# Altium schematic symbol library kmilo17pet-LT_PMIC_LT.SchLib: 2252 symbols (part 27 of 124)
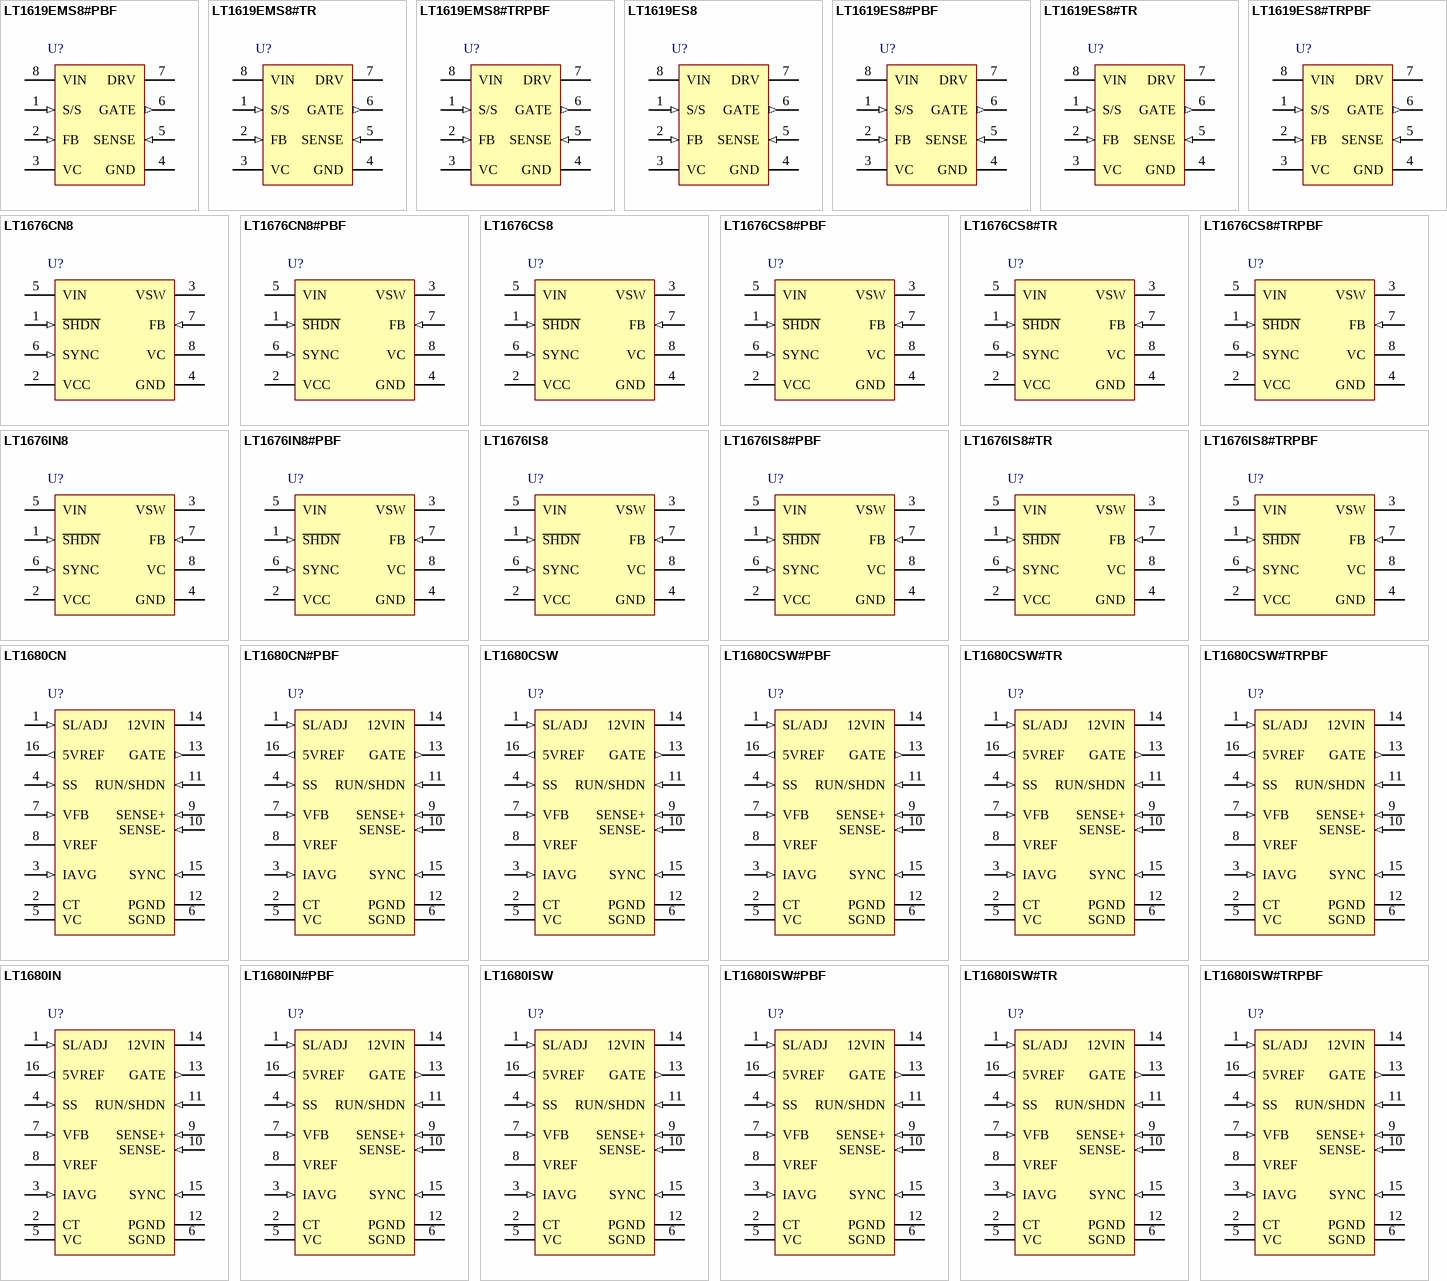
[diagram p97: symbols LT1619EMS8#PBF to LT1680ISW#TRPBF]

## LT1676IS8#TRPBF
designator U?
Wide Input Range, High Efficiency, Step-Down Switching Regulator, 8-pin SOIC (S8-8), -40 to 125 degC, Pb-Free, Tape and Reel; Manufacturer: Linear Technology; PartNumber: LT1676IS8#TRPBF; Number of Outputs: 1; PackageReference: S8-8; PackageDescription: 8-Pin Plastic Small Outline (Narrow .150 Inch), Body 4.9 x 3.9 mm, Pitch 1.27 mm; Supplier 1: Digi-Key; Supplier Part Number 1: LT1676IS8#TRPBF-ND; RoHS: TRUE
footprint LT-S8-8_N (SOIC, 8-Leads, Body 5x4mm, Pitch 1.27mm, IPC Medium Density)
footprint LT-S8-8_L (SOIC, 8-Leads, Body 5x4mm, Pitch 1.27mm, IPC High Density)
footprint LT-S8-8_M (SOIC, 8-Leads, Body 5x4mm, Pitch 1.27mm, IPC Low Density)
pins: 1 ~{SHDN} (in) "When pulled below the shutdown mode threshold, nominally 0.30V, this pin turns off the regulator and reduces VIN input current to a few tens of microamperes (shutdown mode).", 2 VCC (power) "This pin is used to power the internal control circuitry off of the switching supply output. Proper use of this pin enhances overall power supply efficiency. During start-up conditions, internal control circuitry is powered (See Datasheet)", 3 VSW (power) "This is the emitter node of the output switch and has large currents flowing through it. This node moves at a high dV/dt rate, especially when in “boost” mode. Keep the traces to the switching components as short(See Datasheet)", 4 GND (power) "This is the device ground pin. The internal reference and feedback amplifier are referred to it. Keep the ground path connection to the FB divider and the VC compensation capacitor free of large ground currents.", 5 VIN (power) "This is the high voltage supply pin for the output switch. It also supplies power to the internal control circuitry during start-up conditions or if the VCC pin is left open. A high quality bypass capacitor which meets the (See Datasheet)", 6 SYNC (in) "Pin used to synchronize internal oscillator to the external frequency reference. It is directly logic compatible and can be driven with any signal between 10% and 90% duty cycle. The sync function is internally disabled if (See Datasheet)", 7 FB (in) "This is the inverting input to the feedback amplifier. The noninverting input of this amplifier is internally tied to the 1.24V reference. This pin also slows down the frequency of the internal oscillator when its voltage is (See Datasheet)", 8 VC "This is the control voltage pin which is the output of the feedback amplifier and the input of the current comparator. Frequency compensation of the overall loop is effected by placing a capacitor, (or in most cases a series (See Datasheet)"

## LT1680CN
designator U?
High Power DC/DC Step-Up Controller MAX, 16-pin DIP (N-16), 0 to 70 degC; Manufacturer: Linear Technology; PartNumber: LT1680CN; Number of Outputs: 1; PackageReference: N-16; PackageDescription: 16-Pin PDIP, Body 19.56 x 6.48 mm, Pitch 2.54 mm; Supplier 1: Digi-Key; Supplier Part Number 1: LT1680CN-ND; RoHS: FALSE
footprint LT-N-16 (DIP, 16-Leads, Body 19.56x6.48mm, Pitch 2.54mm)
pins: 1 SL/ADJ (in) "Slope Compensation Adjustment. Allows increased slope compensation for certain high duty cycle applications. Resistive loading of this pin increases effective slope compensation. A resistor divider from the 5VREF pin can (See Datasheet)", 2 CT "Oscillator Timing Pin. Connect a capacitor (CCT) to ground and a pull-up resistor (RCT) to the 5VREF supply. Typical values are CCT = 1000pF and 10k <=RCT <= 30k.", 3 IAVG (in) "Average Current Limit Integration. The frequency response characteristic is set using 50k ohm output impedance of this pin and external capacitor. The external capacitor is typically connected from the IAVG pin to the VC (See Datasheet)", 4 SS (in) "Soft Start. Generates ramping threshold for regulator current limit during start-up and after UVLO events by sourcing about 8uA into an external capacitor.", 5 VC "Error Amplifier Output. RC load creates dominant compensation in power supply regulation feedback loop to provide optimum transient response. (See Applications Information section for compensation details.)", 6 SGND (power) "Small-Signal Ground. Connect to negative terminal of COUT.", 7 VFB (in) "Error Amplifier Inverting Input. Used as voltage feedback input node for regulator loop. Pin sources about 0.5uA DC bias current to protect from an open feedback path condition.", 8 VREF "Bandgap Generated Voltage Reference Decoupling. Connect a capacitor to signal ground.", 9 SENSE+ (in) "Current Sense Amplifier Inverting Input. Connect to most positive (DC) terminal of current sense resistor.", 10 SENSE- (in) "Current Sense Amplifier Noninverting Input. Connect to most negative (DC) terminal of current sense resistor.", 11 RUN/SHDN (in) "Precision Referenced Shutdown. Can be used as logic level input for shutdown control or as an analog monitor for input supply undervoltage protection, etc. IC is enabled when RUN/SHDN pin rising edge exceeds 1.25V. 25mV of (See Datasheet)", 12 PGND (power) "Power Ground. References the output switch and internal driver control circuits. Connect with low impedance trace to VIN decoupling capacitor negative (ground) terminal.", 13 GATE (out) "Driver Output. Connect to gate of external power FET switch.", 14 12VIN (power) "12V Power Supply Input. Bypass with at least 1uF to PGND.", 15 SYNC (in) "Oscillator Synchronization Pin with TTL-Level Compatible Input. Input drives internal rising edge triggered one shot; SYNC signal on/off times should be >= 1us (10% to 90% duty cycle at 100kHz). Does not contain internal (See Datasheet)", 16 5VREF (out) "5V Reference Output. Allows connection of external loads up to 10mA DC. Reference is not available during shutdown. Typically bypassed with at least 1uF capacitor to SGND"

## LT1680CN#PBF
designator U?
High Power DC/DC Step-Up Controller MAX, 16-pin DIP (N-16), 0 to 70 degC, Pb-Free; Manufacturer: Linear Technology; PartNumber: LT1680CN#PBF; Number of Outputs: 1; PackageReference: N-16; PackageDescription: 16-Pin PDIP, Body 19.56 x 6.48 mm, Pitch 2.54 mm; Supplier 1: Digi-Key; Supplier Part Number 1: LT1680CN#PBF-ND; RoHS: TRUE
footprint LT-N-16 (DIP, 16-Leads, Body 19.56x6.48mm, Pitch 2.54mm)
pins: 1 SL/ADJ (in) "Slope Compensation Adjustment. Allows increased slope compensation for certain high duty cycle applications. Resistive loading of this pin increases effective slope compensation. A resistor divider from the 5VREF pin can (See Datasheet)", 2 CT "Oscillator Timing Pin. Connect a capacitor (CCT) to ground and a pull-up resistor (RCT) to the 5VREF supply. Typical values are CCT = 1000pF and 10k <=RCT <= 30k.", 3 IAVG (in) "Average Current Limit Integration. The frequency response characteristic is set using 50k ohm output impedance of this pin and external capacitor. The external capacitor is typically connected from the IAVG pin to the VC (See Datasheet)", 4 SS (in) "Soft Start. Generates ramping threshold for regulator current limit during start-up and after UVLO events by sourcing about 8uA into an external capacitor.", 5 VC "Error Amplifier Output. RC load creates dominant compensation in power supply regulation feedback loop to provide optimum transient response. (See Applications Information section for compensation details.)", 6 SGND (power) "Small-Signal Ground. Connect to negative terminal of COUT.", 7 VFB (in) "Error Amplifier Inverting Input. Used as voltage feedback input node for regulator loop. Pin sources about 0.5uA DC bias current to protect from an open feedback path condition.", 8 VREF "Bandgap Generated Voltage Reference Decoupling. Connect a capacitor to signal ground.", 9 SENSE+ (in) "Current Sense Amplifier Inverting Input. Connect to most positive (DC) terminal of current sense resistor.", 10 SENSE- (in) "Current Sense Amplifier Noninverting Input. Connect to most negative (DC) terminal of current sense resistor.", 11 RUN/SHDN (in) "Precision Referenced Shutdown. Can be used as logic level input for shutdown control or as an analog monitor for input supply undervoltage protection, etc. IC is enabled when RUN/SHDN pin rising edge exceeds 1.25V. 25mV of (See Datasheet)", 12 PGND (power) "Power Ground. References the output switch and internal driver control circuits. Connect with low impedance trace to VIN decoupling capacitor negative (ground) terminal.", 13 GATE (out) "Driver Output. Connect to gate of external power FET switch.", 14 12VIN (power) "12V Power Supply Input. Bypass with at least 1uF to PGND.", 15 SYNC (in) "Oscillator Synchronization Pin with TTL-Level Compatible Input. Input drives internal rising edge triggered one shot; SYNC signal on/off times should be >= 1us (10% to 90% duty cycle at 100kHz). Does not contain internal (See Datasheet)", 16 5VREF (out) "5V Reference Output. Allows connection of external loads up to 10mA DC. Reference is not available during shutdown. Typically bypassed with at least 1uF capacitor to SGND"

## LT1680CSW
designator U?
High Power DC/DC Step-Up Controller MAX, 16-pin SOIC (SW-16), 0 to 70 degC; Manufacturer: Linear Technology; PartNumber: LT1680CSW; Number of Outputs: 1; PackageReference: SW-16; PackageDescription: 16-Pin Plastic Small Outline, Body 10.30 x 7.49 mm, Pitch 1.27 mm; Supplier 1: Digi-Key; Supplier Part Number 1: LT1680CSW-ND; RoHS: FALSE
footprint LT-SW-16_N (SOIC, 16-Leads, Body 10.3x7.49mm, Pitch 1.27mm, IPC Medium Density)
footprint LT-SW-16_L (SOIC, 16-Leads, Body 10.3x7.49mm, Pitch 1.27mm, IPC High Density)
footprint LT-SW-16_M (SOIC, 16-Leads, Body 10.3x7.49mm, Pitch 1.27mm, IPC Low Density)
pins: 1 SL/ADJ (in) "Slope Compensation Adjustment. Allows increased slope compensation for certain high duty cycle applications. Resistive loading of this pin increases effective slope compensation. A resistor divider from the 5VREF pin can (See Datasheet)", 2 CT "Oscillator Timing Pin. Connect a capacitor (CCT) to ground and a pull-up resistor (RCT) to the 5VREF supply. Typical values are CCT = 1000pF and 10k <=RCT <= 30k.", 3 IAVG (in) "Average Current Limit Integration. The frequency response characteristic is set using 50k ohm output impedance of this pin and external capacitor. The external capacitor is typically connected from the IAVG pin to the VC (See Datasheet)", 4 SS (in) "Soft Start. Generates ramping threshold for regulator current limit during start-up and after UVLO events by sourcing about 8uA into an external capacitor.", 5 VC "Error Amplifier Output. RC load creates dominant compensation in power supply regulation feedback loop to provide optimum transient response. (See Applications Information section for compensation details.)", 6 SGND (power) "Small-Signal Ground. Connect to negative terminal of COUT.", 7 VFB (in) "Error Amplifier Inverting Input. Used as voltage feedback input node for regulator loop. Pin sources about 0.5uA DC bias current to protect from an open feedback path condition.", 8 VREF "Bandgap Generated Voltage Reference Decoupling. Connect a capacitor to signal ground.", 9 SENSE+ (in) "Current Sense Amplifier Inverting Input. Connect to most positive (DC) terminal of current sense resistor.", 10 SENSE- (in) "Current Sense Amplifier Noninverting Input. Connect to most negative (DC) terminal of current sense resistor.", 11 RUN/SHDN (in) "Precision Referenced Shutdown. Can be used as logic level input for shutdown control or as an analog monitor for input supply undervoltage protection, etc. IC is enabled when RUN/SHDN pin rising edge exceeds 1.25V. 25mV of (See Datasheet)", 12 PGND (power) "Power Ground. References the output switch and internal driver control circuits. Connect with low impedance trace to VIN decoupling capacitor negative (ground) terminal.", 13 GATE (out) "Driver Output. Connect to gate of external power FET switch.", 14 12VIN (power) "12V Power Supply Input. Bypass with at least 1uF to PGND.", 15 SYNC (in) "Oscillator Synchronization Pin with TTL-Level Compatible Input. Input drives internal rising edge triggered one shot; SYNC signal on/off times should be >= 1us (10% to 90% duty cycle at 100kHz). Does not contain internal (See Datasheet)", 16 5VREF (out) "5V Reference Output. Allows connection of external loads up to 10mA DC. Reference is not available during shutdown. Typically bypassed with at least 1uF capacitor to SGND"

## LT1680CSW#PBF
designator U?
High Power DC/DC Step-Up Controller MAX, 16-pin SOIC (SW-16), 0 to 70 degC, Pb-Free; Manufacturer: Linear Technology; PartNumber: LT1680CSW#PBF; Number of Outputs: 1; PackageReference: SW-16; PackageDescription: 16-Pin Plastic Small Outline, Body 10.30 x 7.49 mm, Pitch 1.27 mm; Supplier 1: Digi-Key; Supplier Part Number 1: LT1680CSW#PBF-ND; RoHS: TRUE
footprint LT-SW-16_N (SOIC, 16-Leads, Body 10.3x7.49mm, Pitch 1.27mm, IPC Medium Density)
footprint LT-SW-16_L (SOIC, 16-Leads, Body 10.3x7.49mm, Pitch 1.27mm, IPC High Density)
footprint LT-SW-16_M (SOIC, 16-Leads, Body 10.3x7.49mm, Pitch 1.27mm, IPC Low Density)
pins: 1 SL/ADJ (in) "Slope Compensation Adjustment. Allows increased slope compensation for certain high duty cycle applications. Resistive loading of this pin increases effective slope compensation. A resistor divider from the 5VREF pin can (See Datasheet)", 2 CT "Oscillator Timing Pin. Connect a capacitor (CCT) to ground and a pull-up resistor (RCT) to the 5VREF supply. Typical values are CCT = 1000pF and 10k <=RCT <= 30k.", 3 IAVG (in) "Average Current Limit Integration. The frequency response characteristic is set using 50k ohm output impedance of this pin and external capacitor. The external capacitor is typically connected from the IAVG pin to the VC (See Datasheet)", 4 SS (in) "Soft Start. Generates ramping threshold for regulator current limit during start-up and after UVLO events by sourcing about 8uA into an external capacitor.", 5 VC "Error Amplifier Output. RC load creates dominant compensation in power supply regulation feedback loop to provide optimum transient response. (See Applications Information section for compensation details.)", 6 SGND (power) "Small-Signal Ground. Connect to negative terminal of COUT.", 7 VFB (in) "Error Amplifier Inverting Input. Used as voltage feedback input node for regulator loop. Pin sources about 0.5uA DC bias current to protect from an open feedback path condition.", 8 VREF "Bandgap Generated Voltage Reference Decoupling. Connect a capacitor to signal ground.", 9 SENSE+ (in) "Current Sense Amplifier Inverting Input. Connect to most positive (DC) terminal of current sense resistor.", 10 SENSE- (in) "Current Sense Amplifier Noninverting Input. Connect to most negative (DC) terminal of current sense resistor.", 11 RUN/SHDN (in) "Precision Referenced Shutdown. Can be used as logic level input for shutdown control or as an analog monitor for input supply undervoltage protection, etc. IC is enabled when RUN/SHDN pin rising edge exceeds 1.25V. 25mV of (See Datasheet)", 12 PGND (power) "Power Ground. References the output switch and internal driver control circuits. Connect with low impedance trace to VIN decoupling capacitor negative (ground) terminal.", 13 GATE (out) "Driver Output. Connect to gate of external power FET switch.", 14 12VIN (power) "12V Power Supply Input. Bypass with at least 1uF to PGND.", 15 SYNC (in) "Oscillator Synchronization Pin with TTL-Level Compatible Input. Input drives internal rising edge triggered one shot; SYNC signal on/off times should be >= 1us (10% to 90% duty cycle at 100kHz). Does not contain internal (See Datasheet)", 16 5VREF (out) "5V Reference Output. Allows connection of external loads up to 10mA DC. Reference is not available during shutdown. Typically bypassed with at least 1uF capacitor to SGND"

## LT1680CSW#TR
designator U?
High Power DC/DC Step-Up Controller MAX, 16-pin SOIC (SW-16), 0 to 70 degC, Tape and Reel; Manufacturer: Linear Technology; PartNumber: LT1680CSW#TR; Number of Outputs: 1; PackageReference: SW-16; PackageDescription: 16-Pin Plastic Small Outline, Body 10.30 x 7.49 mm, Pitch 1.27 mm; Supplier 1: Digi-Key; Supplier Part Number 1: LT1680CSW#TR-ND; RoHS: FALSE
footprint LT-SW-16_N (SOIC, 16-Leads, Body 10.3x7.49mm, Pitch 1.27mm, IPC Medium Density)
footprint LT-SW-16_L (SOIC, 16-Leads, Body 10.3x7.49mm, Pitch 1.27mm, IPC High Density)
footprint LT-SW-16_M (SOIC, 16-Leads, Body 10.3x7.49mm, Pitch 1.27mm, IPC Low Density)
pins: 1 SL/ADJ (in) "Slope Compensation Adjustment. Allows increased slope compensation for certain high duty cycle applications. Resistive loading of this pin increases effective slope compensation. A resistor divider from the 5VREF pin can (See Datasheet)", 2 CT "Oscillator Timing Pin. Connect a capacitor (CCT) to ground and a pull-up resistor (RCT) to the 5VREF supply. Typical values are CCT = 1000pF and 10k <=RCT <= 30k.", 3 IAVG (in) "Average Current Limit Integration. The frequency response characteristic is set using 50k ohm output impedance of this pin and external capacitor. The external capacitor is typically connected from the IAVG pin to the VC (See Datasheet)", 4 SS (in) "Soft Start. Generates ramping threshold for regulator current limit during start-up and after UVLO events by sourcing about 8uA into an external capacitor.", 5 VC "Error Amplifier Output. RC load creates dominant compensation in power supply regulation feedback loop to provide optimum transient response. (See Applications Information section for compensation details.)", 6 SGND (power) "Small-Signal Ground. Connect to negative terminal of COUT.", 7 VFB (in) "Error Amplifier Inverting Input. Used as voltage feedback input node for regulator loop. Pin sources about 0.5uA DC bias current to protect from an open feedback path condition.", 8 VREF "Bandgap Generated Voltage Reference Decoupling. Connect a capacitor to signal ground.", 9 SENSE+ (in) "Current Sense Amplifier Inverting Input. Connect to most positive (DC) terminal of current sense resistor.", 10 SENSE- (in) "Current Sense Amplifier Noninverting Input. Connect to most negative (DC) terminal of current sense resistor.", 11 RUN/SHDN (in) "Precision Referenced Shutdown. Can be used as logic level input for shutdown control or as an analog monitor for input supply undervoltage protection, etc. IC is enabled when RUN/SHDN pin rising edge exceeds 1.25V. 25mV of (See Datasheet)", 12 PGND (power) "Power Ground. References the output switch and internal driver control circuits. Connect with low impedance trace to VIN decoupling capacitor negative (ground) terminal.", 13 GATE (out) "Driver Output. Connect to gate of external power FET switch.", 14 12VIN (power) "12V Power Supply Input. Bypass with at least 1uF to PGND.", 15 SYNC (in) "Oscillator Synchronization Pin with TTL-Level Compatible Input. Input drives internal rising edge triggered one shot; SYNC signal on/off times should be >= 1us (10% to 90% duty cycle at 100kHz). Does not contain internal (See Datasheet)", 16 5VREF (out) "5V Reference Output. Allows connection of external loads up to 10mA DC. Reference is not available during shutdown. Typically bypassed with at least 1uF capacitor to SGND"

## LT1680CSW#TRPBF
designator U?
High Power DC/DC Step-Up Controller MAX, 16-pin SOIC (SW-16), 0 to 70 degC, Pb-Free, Tape and Reel; Manufacturer: Linear Technology; PartNumber: LT1680CSW#TRPBF; Number of Outputs: 1; PackageReference: SW-16; PackageDescription: 16-Pin Plastic Small Outline, Body 10.30 x 7.49 mm, Pitch 1.27 mm; Supplier 1: Digi-Key; Supplier Part Number 1: LT1680CSW#TRPBF-ND; RoHS: TRUE
footprint LT-SW-16_N (SOIC, 16-Leads, Body 10.3x7.49mm, Pitch 1.27mm, IPC Medium Density)
footprint LT-SW-16_L (SOIC, 16-Leads, Body 10.3x7.49mm, Pitch 1.27mm, IPC High Density)
footprint LT-SW-16_M (SOIC, 16-Leads, Body 10.3x7.49mm, Pitch 1.27mm, IPC Low Density)
pins: 1 SL/ADJ (in) "Slope Compensation Adjustment. Allows increased slope compensation for certain high duty cycle applications. Resistive loading of this pin increases effective slope compensation. A resistor divider from the 5VREF pin can (See Datasheet)", 2 CT "Oscillator Timing Pin. Connect a capacitor (CCT) to ground and a pull-up resistor (RCT) to the 5VREF supply. Typical values are CCT = 1000pF and 10k <=RCT <= 30k.", 3 IAVG (in) "Average Current Limit Integration. The frequency response characteristic is set using 50k ohm output impedance of this pin and external capacitor. The external capacitor is typically connected from the IAVG pin to the VC (See Datasheet)", 4 SS (in) "Soft Start. Generates ramping threshold for regulator current limit during start-up and after UVLO events by sourcing about 8uA into an external capacitor.", 5 VC "Error Amplifier Output. RC load creates dominant compensation in power supply regulation feedback loop to provide optimum transient response. (See Applications Information section for compensation details.)", 6 SGND (power) "Small-Signal Ground. Connect to negative terminal of COUT.", 7 VFB (in) "Error Amplifier Inverting Input. Used as voltage feedback input node for regulator loop. Pin sources about 0.5uA DC bias current to protect from an open feedback path condition.", 8 VREF "Bandgap Generated Voltage Reference Decoupling. Connect a capacitor to signal ground.", 9 SENSE+ (in) "Current Sense Amplifier Inverting Input. Connect to most positive (DC) terminal of current sense resistor.", 10 SENSE- (in) "Current Sense Amplifier Noninverting Input. Connect to most negative (DC) terminal of current sense resistor.", 11 RUN/SHDN (in) "Precision Referenced Shutdown. Can be used as logic level input for shutdown control or as an analog monitor for input supply undervoltage protection, etc. IC is enabled when RUN/SHDN pin rising edge exceeds 1.25V. 25mV of (See Datasheet)", 12 PGND (power) "Power Ground. References the output switch and internal driver control circuits. Connect with low impedance trace to VIN decoupling capacitor negative (ground) terminal.", 13 GATE (out) "Driver Output. Connect to gate of external power FET switch.", 14 12VIN (power) "12V Power Supply Input. Bypass with at least 1uF to PGND.", 15 SYNC (in) "Oscillator Synchronization Pin with TTL-Level Compatible Input. Input drives internal rising edge triggered one shot; SYNC signal on/off times should be >= 1us (10% to 90% duty cycle at 100kHz). Does not contain internal (See Datasheet)", 16 5VREF (out) "5V Reference Output. Allows connection of external loads up to 10mA DC. Reference is not available during shutdown. Typically bypassed with at least 1uF capacitor to SGND"

## LT1680IN
designator U?
High Power DC/DC Step-Up Controller MAX, 16-pin DIP (N-16), -40 to 85 degC; Manufacturer: Linear Technology; PartNumber: LT1680IN; Number of Outputs: 1; PackageReference: N-16; PackageDescription: 16-Pin PDIP, Body 19.56 x 6.48 mm, Pitch 2.54 mm; Supplier 1: Digi-Key; Supplier Part Number 1: LT1680IN-ND; RoHS: FALSE
footprint LT-N-16 (DIP, 16-Leads, Body 19.56x6.48mm, Pitch 2.54mm)
pins: 1 SL/ADJ (in) "Slope Compensation Adjustment. Allows increased slope compensation for certain high duty cycle applications. Resistive loading of this pin increases effective slope compensation. A resistor divider from the 5VREF pin can (See Datasheet)", 2 CT "Oscillator Timing Pin. Connect a capacitor (CCT) to ground and a pull-up resistor (RCT) to the 5VREF supply. Typical values are CCT = 1000pF and 10k <=RCT <= 30k.", 3 IAVG (in) "Average Current Limit Integration. The frequency response characteristic is set using 50k ohm output impedance of this pin and external capacitor. The external capacitor is typically connected from the IAVG pin to the VC (See Datasheet)", 4 SS (in) "Soft Start. Generates ramping threshold for regulator current limit during start-up and after UVLO events by sourcing about 8uA into an external capacitor.", 5 VC "Error Amplifier Output. RC load creates dominant compensation in power supply regulation feedback loop to provide optimum transient response. (See Applications Information section for compensation details.)", 6 SGND (power) "Small-Signal Ground. Connect to negative terminal of COUT.", 7 VFB (in) "Error Amplifier Inverting Input. Used as voltage feedback input node for regulator loop. Pin sources about 0.5uA DC bias current to protect from an open feedback path condition.", 8 VREF "Bandgap Generated Voltage Reference Decoupling. Connect a capacitor to signal ground.", 9 SENSE+ (in) "Current Sense Amplifier Inverting Input. Connect to most positive (DC) terminal of current sense resistor.", 10 SENSE- (in) "Current Sense Amplifier Noninverting Input. Connect to most negative (DC) terminal of current sense resistor.", 11 RUN/SHDN (in) "Precision Referenced Shutdown. Can be used as logic level input for shutdown control or as an analog monitor for input supply undervoltage protection, etc. IC is enabled when RUN/SHDN pin rising edge exceeds 1.25V. 25mV of (See Datasheet)", 12 PGND (power) "Power Ground. References the output switch and internal driver control circuits. Connect with low impedance trace to VIN decoupling capacitor negative (ground) terminal.", 13 GATE (out) "Driver Output. Connect to gate of external power FET switch.", 14 12VIN (power) "12V Power Supply Input. Bypass with at least 1uF to PGND.", 15 SYNC (in) "Oscillator Synchronization Pin with TTL-Level Compatible Input. Input drives internal rising edge triggered one shot; SYNC signal on/off times should be >= 1us (10% to 90% duty cycle at 100kHz). Does not contain internal (See Datasheet)", 16 5VREF (out) "5V Reference Output. Allows connection of external loads up to 10mA DC. Reference is not available during shutdown. Typically bypassed with at least 1uF capacitor to SGND"

## LT1680IN#PBF
designator U?
High Power DC/DC Step-Up Controller MAX, 16-pin DIP (N-16), -40 to 85 degC, Pb-Free; Manufacturer: Linear Technology; PartNumber: LT1680IN#PBF; Number of Outputs: 1; PackageReference: N-16; PackageDescription: 16-Pin PDIP, Body 19.56 x 6.48 mm, Pitch 2.54 mm; Supplier 1: Digi-Key; Supplier Part Number 1: LT1680IN#PBF-ND; RoHS: TRUE
footprint LT-N-16 (DIP, 16-Leads, Body 19.56x6.48mm, Pitch 2.54mm)
pins: 1 SL/ADJ (in) "Slope Compensation Adjustment. Allows increased slope compensation for certain high duty cycle applications. Resistive loading of this pin increases effective slope compensation. A resistor divider from the 5VREF pin can (See Datasheet)", 2 CT "Oscillator Timing Pin. Connect a capacitor (CCT) to ground and a pull-up resistor (RCT) to the 5VREF supply. Typical values are CCT = 1000pF and 10k <=RCT <= 30k.", 3 IAVG (in) "Average Current Limit Integration. The frequency response characteristic is set using 50k ohm output impedance of this pin and external capacitor. The external capacitor is typically connected from the IAVG pin to the VC (See Datasheet)", 4 SS (in) "Soft Start. Generates ramping threshold for regulator current limit during start-up and after UVLO events by sourcing about 8uA into an external capacitor.", 5 VC "Error Amplifier Output. RC load creates dominant compensation in power supply regulation feedback loop to provide optimum transient response. (See Applications Information section for compensation details.)", 6 SGND (power) "Small-Signal Ground. Connect to negative terminal of COUT.", 7 VFB (in) "Error Amplifier Inverting Input. Used as voltage feedback input node for regulator loop. Pin sources about 0.5uA DC bias current to protect from an open feedback path condition.", 8 VREF "Bandgap Generated Voltage Reference Decoupling. Connect a capacitor to signal ground.", 9 SENSE+ (in) "Current Sense Amplifier Inverting Input. Connect to most positive (DC) terminal of current sense resistor.", 10 SENSE- (in) "Current Sense Amplifier Noninverting Input. Connect to most negative (DC) terminal of current sense resistor.", 11 RUN/SHDN (in) "Precision Referenced Shutdown. Can be used as logic level input for shutdown control or as an analog monitor for input supply undervoltage protection, etc. IC is enabled when RUN/SHDN pin rising edge exceeds 1.25V. 25mV of (See Datasheet)", 12 PGND (power) "Power Ground. References the output switch and internal driver control circuits. Connect with low impedance trace to VIN decoupling capacitor negative (ground) terminal.", 13 GATE (out) "Driver Output. Connect to gate of external power FET switch.", 14 12VIN (power) "12V Power Supply Input. Bypass with at least 1uF to PGND.", 15 SYNC (in) "Oscillator Synchronization Pin with TTL-Level Compatible Input. Input drives internal rising edge triggered one shot; SYNC signal on/off times should be >= 1us (10% to 90% duty cycle at 100kHz). Does not contain internal (See Datasheet)", 16 5VREF (out) "5V Reference Output. Allows connection of external loads up to 10mA DC. Reference is not available during shutdown. Typically bypassed with at least 1uF capacitor to SGND"

## LT1680ISW
designator U?
High Power DC/DC Step-Up Controller MAX, 16-pin SOIC (SW-16), -40 to 85 degC; Manufacturer: Linear Technology; PartNumber: LT1680ISW; Number of Outputs: 1; PackageReference: SW-16; PackageDescription: 16-Pin Plastic Small Outline, Body 10.30 x 7.49 mm, Pitch 1.27 mm; Supplier 1: Digi-Key; Supplier Part Number 1: LT1680ISW-ND; RoHS: FALSE
footprint LT-SW-16_N (SOIC, 16-Leads, Body 10.3x7.49mm, Pitch 1.27mm, IPC Medium Density)
footprint LT-SW-16_L (SOIC, 16-Leads, Body 10.3x7.49mm, Pitch 1.27mm, IPC High Density)
footprint LT-SW-16_M (SOIC, 16-Leads, Body 10.3x7.49mm, Pitch 1.27mm, IPC Low Density)
pins: 1 SL/ADJ (in) "Slope Compensation Adjustment. Allows increased slope compensation for certain high duty cycle applications. Resistive loading of this pin increases effective slope compensation. A resistor divider from the 5VREF pin can (See Datasheet)", 2 CT "Oscillator Timing Pin. Connect a capacitor (CCT) to ground and a pull-up resistor (RCT) to the 5VREF supply. Typical values are CCT = 1000pF and 10k <=RCT <= 30k.", 3 IAVG (in) "Average Current Limit Integration. The frequency response characteristic is set using 50k ohm output impedance of this pin and external capacitor. The external capacitor is typically connected from the IAVG pin to the VC (See Datasheet)", 4 SS (in) "Soft Start. Generates ramping threshold for regulator current limit during start-up and after UVLO events by sourcing about 8uA into an external capacitor.", 5 VC "Error Amplifier Output. RC load creates dominant compensation in power supply regulation feedback loop to provide optimum transient response. (See Applications Information section for compensation details.)", 6 SGND (power) "Small-Signal Ground. Connect to negative terminal of COUT.", 7 VFB (in) "Error Amplifier Inverting Input. Used as voltage feedback input node for regulator loop. Pin sources about 0.5uA DC bias current to protect from an open feedback path condition.", 8 VREF "Bandgap Generated Voltage Reference Decoupling. Connect a capacitor to signal ground.", 9 SENSE+ (in) "Current Sense Amplifier Inverting Input. Connect to most positive (DC) terminal of current sense resistor.", 10 SENSE- (in) "Current Sense Amplifier Noninverting Input. Connect to most negative (DC) terminal of current sense resistor.", 11 RUN/SHDN (in) "Precision Referenced Shutdown. Can be used as logic level input for shutdown control or as an analog monitor for input supply undervoltage protection, etc. IC is enabled when RUN/SHDN pin rising edge exceeds 1.25V. 25mV of (See Datasheet)", 12 PGND (power) "Power Ground. References the output switch and internal driver control circuits. Connect with low impedance trace to VIN decoupling capacitor negative (ground) terminal.", 13 GATE (out) "Driver Output. Connect to gate of external power FET switch.", 14 12VIN (power) "12V Power Supply Input. Bypass with at least 1uF to PGND.", 15 SYNC (in) "Oscillator Synchronization Pin with TTL-Level Compatible Input. Input drives internal rising edge triggered one shot; SYNC signal on/off times should be >= 1us (10% to 90% duty cycle at 100kHz). Does not contain internal (See Datasheet)", 16 5VREF (out) "5V Reference Output. Allows connection of external loads up to 10mA DC. Reference is not available during shutdown. Typically bypassed with at least 1uF capacitor to SGND"

## LT1680ISW#PBF
designator U?
High Power DC/DC Step-Up Controller MAX, 16-pin SOIC (SW-16), -40 to 85 degC, Pb-Free; Manufacturer: Linear Technology; PartNumber: LT1680ISW#PBF; Number of Outputs: 1; PackageReference: SW-16; PackageDescription: 16-Pin Plastic Small Outline, Body 10.30 x 7.49 mm, Pitch 1.27 mm; Supplier 1: Digi-Key; Supplier Part Number 1: LT1680ISW#PBF-ND; RoHS: TRUE
footprint LT-SW-16_N (SOIC, 16-Leads, Body 10.3x7.49mm, Pitch 1.27mm, IPC Medium Density)
footprint LT-SW-16_L (SOIC, 16-Leads, Body 10.3x7.49mm, Pitch 1.27mm, IPC High Density)
footprint LT-SW-16_M (SOIC, 16-Leads, Body 10.3x7.49mm, Pitch 1.27mm, IPC Low Density)
pins: 1 SL/ADJ (in) "Slope Compensation Adjustment. Allows increased slope compensation for certain high duty cycle applications. Resistive loading of this pin increases effective slope compensation. A resistor divider from the 5VREF pin can (See Datasheet)", 2 CT "Oscillator Timing Pin. Connect a capacitor (CCT) to ground and a pull-up resistor (RCT) to the 5VREF supply. Typical values are CCT = 1000pF and 10k <=RCT <= 30k.", 3 IAVG (in) "Average Current Limit Integration. The frequency response characteristic is set using 50k ohm output impedance of this pin and external capacitor. The external capacitor is typically connected from the IAVG pin to the VC (See Datasheet)", 4 SS (in) "Soft Start. Generates ramping threshold for regulator current limit during start-up and after UVLO events by sourcing about 8uA into an external capacitor.", 5 VC "Error Amplifier Output. RC load creates dominant compensation in power supply regulation feedback loop to provide optimum transient response. (See Applications Information section for compensation details.)", 6 SGND (power) "Small-Signal Ground. Connect to negative terminal of COUT.", 7 VFB (in) "Error Amplifier Inverting Input. Used as voltage feedback input node for regulator loop. Pin sources about 0.5uA DC bias current to protect from an open feedback path condition.", 8 VREF "Bandgap Generated Voltage Reference Decoupling. Connect a capacitor to signal ground.", 9 SENSE+ (in) "Current Sense Amplifier Inverting Input. Connect to most positive (DC) terminal of current sense resistor.", 10 SENSE- (in) "Current Sense Amplifier Noninverting Input. Connect to most negative (DC) terminal of current sense resistor.", 11 RUN/SHDN (in) "Precision Referenced Shutdown. Can be used as logic level input for shutdown control or as an analog monitor for input supply undervoltage protection, etc. IC is enabled when RUN/SHDN pin rising edge exceeds 1.25V. 25mV of (See Datasheet)", 12 PGND (power) "Power Ground. References the output switch and internal driver control circuits. Connect with low impedance trace to VIN decoupling capacitor negative (ground) terminal.", 13 GATE (out) "Driver Output. Connect to gate of external power FET switch.", 14 12VIN (power) "12V Power Supply Input. Bypass with at least 1uF to PGND.", 15 SYNC (in) "Oscillator Synchronization Pin with TTL-Level Compatible Input. Input drives internal rising edge triggered one shot; SYNC signal on/off times should be >= 1us (10% to 90% duty cycle at 100kHz). Does not contain internal (See Datasheet)", 16 5VREF (out) "5V Reference Output. Allows connection of external loads up to 10mA DC. Reference is not available during shutdown. Typically bypassed with at least 1uF capacitor to SGND"

## LT1680ISW#TR
designator U?
High Power DC/DC Step-Up Controller MAX, 16-pin SOIC (SW-16), -40 to 85 degC, Tape and Reel; Manufacturer: Linear Technology; PartNumber: LT1680ISW#TR; Number of Outputs: 1; PackageReference: SW-16; PackageDescription: 16-Pin Plastic Small Outline, Body 10.30 x 7.49 mm, Pitch 1.27 mm; Supplier 1: Digi-Key; Supplier Part Number 1: LT1680ISW#TR-ND; RoHS: FALSE
footprint LT-SW-16_N (SOIC, 16-Leads, Body 10.3x7.49mm, Pitch 1.27mm, IPC Medium Density)
footprint LT-SW-16_L (SOIC, 16-Leads, Body 10.3x7.49mm, Pitch 1.27mm, IPC High Density)
footprint LT-SW-16_M (SOIC, 16-Leads, Body 10.3x7.49mm, Pitch 1.27mm, IPC Low Density)
pins: 1 SL/ADJ (in) "Slope Compensation Adjustment. Allows increased slope compensation for certain high duty cycle applications. Resistive loading of this pin increases effective slope compensation. A resistor divider from the 5VREF pin can (See Datasheet)", 2 CT "Oscillator Timing Pin. Connect a capacitor (CCT) to ground and a pull-up resistor (RCT) to the 5VREF supply. Typical values are CCT = 1000pF and 10k <=RCT <= 30k.", 3 IAVG (in) "Average Current Limit Integration. The frequency response characteristic is set using 50k ohm output impedance of this pin and external capacitor. The external capacitor is typically connected from the IAVG pin to the VC (See Datasheet)", 4 SS (in) "Soft Start. Generates ramping threshold for regulator current limit during start-up and after UVLO events by sourcing about 8uA into an external capacitor.", 5 VC "Error Amplifier Output. RC load creates dominant compensation in power supply regulation feedback loop to provide optimum transient response. (See Applications Information section for compensation details.)", 6 SGND (power) "Small-Signal Ground. Connect to negative terminal of COUT.", 7 VFB (in) "Error Amplifier Inverting Input. Used as voltage feedback input node for regulator loop. Pin sources about 0.5uA DC bias current to protect from an open feedback path condition.", 8 VREF "Bandgap Generated Voltage Reference Decoupling. Connect a capacitor to signal ground.", 9 SENSE+ (in) "Current Sense Amplifier Inverting Input. Connect to most positive (DC) terminal of current sense resistor.", 10 SENSE- (in) "Current Sense Amplifier Noninverting Input. Connect to most negative (DC) terminal of current sense resistor.", 11 RUN/SHDN (in) "Precision Referenced Shutdown. Can be used as logic level input for shutdown control or as an analog monitor for input supply undervoltage protection, etc. IC is enabled when RUN/SHDN pin rising edge exceeds 1.25V. 25mV of (See Datasheet)", 12 PGND (power) "Power Ground. References the output switch and internal driver control circuits. Connect with low impedance trace to VIN decoupling capacitor negative (ground) terminal.", 13 GATE (out) "Driver Output. Connect to gate of external power FET switch.", 14 12VIN (power) "12V Power Supply Input. Bypass with at least 1uF to PGND.", 15 SYNC (in) "Oscillator Synchronization Pin with TTL-Level Compatible Input. Input drives internal rising edge triggered one shot; SYNC signal on/off times should be >= 1us (10% to 90% duty cycle at 100kHz). Does not contain internal (See Datasheet)", 16 5VREF (out) "5V Reference Output. Allows connection of external loads up to 10mA DC. Reference is not available during shutdown. Typically bypassed with at least 1uF capacitor to SGND"

## LT1680ISW#TRPBF
designator U?
High Power DC/DC Step-Up Controller MAX, 16-pin SOIC (SW-16), -40 to 85 degC, Pb-Free, Tape and Reel; Manufacturer: Linear Technology; PartNumber: LT1680ISW#TRPBF; Number of Outputs: 1; PackageReference: SW-16; PackageDescription: 16-Pin Plastic Small Outline, Body 10.30 x 7.49 mm, Pitch 1.27 mm; Supplier 1: Digi-Key; Supplier Part Number 1: LT1680ISW#TRPBF-ND; RoHS: TRUE
footprint LT-SW-16_N (SOIC, 16-Leads, Body 10.3x7.49mm, Pitch 1.27mm, IPC Medium Density)
footprint LT-SW-16_L (SOIC, 16-Leads, Body 10.3x7.49mm, Pitch 1.27mm, IPC High Density)
footprint LT-SW-16_M (SOIC, 16-Leads, Body 10.3x7.49mm, Pitch 1.27mm, IPC Low Density)
pins: 1 SL/ADJ (in) "Slope Compensation Adjustment. Allows increased slope compensation for certain high duty cycle applications. Resistive loading of this pin increases effective slope compensation. A resistor divider from the 5VREF pin can (See Datasheet)", 2 CT "Oscillator Timing Pin. Connect a capacitor (CCT) to ground and a pull-up resistor (RCT) to the 5VREF supply. Typical values are CCT = 1000pF and 10k <=RCT <= 30k.", 3 IAVG (in) "Average Current Limit Integration. The frequency response characteristic is set using 50k ohm output impedance of this pin and external capacitor. The external capacitor is typically connected from the IAVG pin to the VC (See Datasheet)", 4 SS (in) "Soft Start. Generates ramping threshold for regulator current limit during start-up and after UVLO events by sourcing about 8uA into an external capacitor.", 5 VC "Error Amplifier Output. RC load creates dominant compensation in power supply regulation feedback loop to provide optimum transient response. (See Applications Information section for compensation details.)", 6 SGND (power) "Small-Signal Ground. Connect to negative terminal of COUT.", 7 VFB (in) "Error Amplifier Inverting Input. Used as voltage feedback input node for regulator loop. Pin sources about 0.5uA DC bias current to protect from an open feedback path condition.", 8 VREF "Bandgap Generated Voltage Reference Decoupling. Connect a capacitor to signal ground.", 9 SENSE+ (in) "Current Sense Amplifier Inverting Input. Connect to most positive (DC) terminal of current sense resistor.", 10 SENSE- (in) "Current Sense Amplifier Noninverting Input. Connect to most negative (DC) terminal of current sense resistor.", 11 RUN/SHDN (in) "Precision Referenced Shutdown. Can be used as logic level input for shutdown control or as an analog monitor for input supply undervoltage protection, etc. IC is enabled when RUN/SHDN pin rising edge exceeds 1.25V. 25mV of (See Datasheet)", 12 PGND (power) "Power Ground. References the output switch and internal driver control circuits. Connect with low impedance trace to VIN decoupling capacitor negative (ground) terminal.", 13 GATE (out) "Driver Output. Connect to gate of external power FET switch.", 14 12VIN (power) "12V Power Supply Input. Bypass with at least 1uF to PGND.", 15 SYNC (in) "Oscillator Synchronization Pin with TTL-Level Compatible Input. Input drives internal rising edge triggered one shot; SYNC signal on/off times should be >= 1us (10% to 90% duty cycle at 100kHz). Does not contain internal (See Datasheet)", 16 5VREF (out) "5V Reference Output. Allows connection of external loads up to 10mA DC. Reference is not available during shutdown. Typically bypassed with at least 1uF capacitor to SGND"

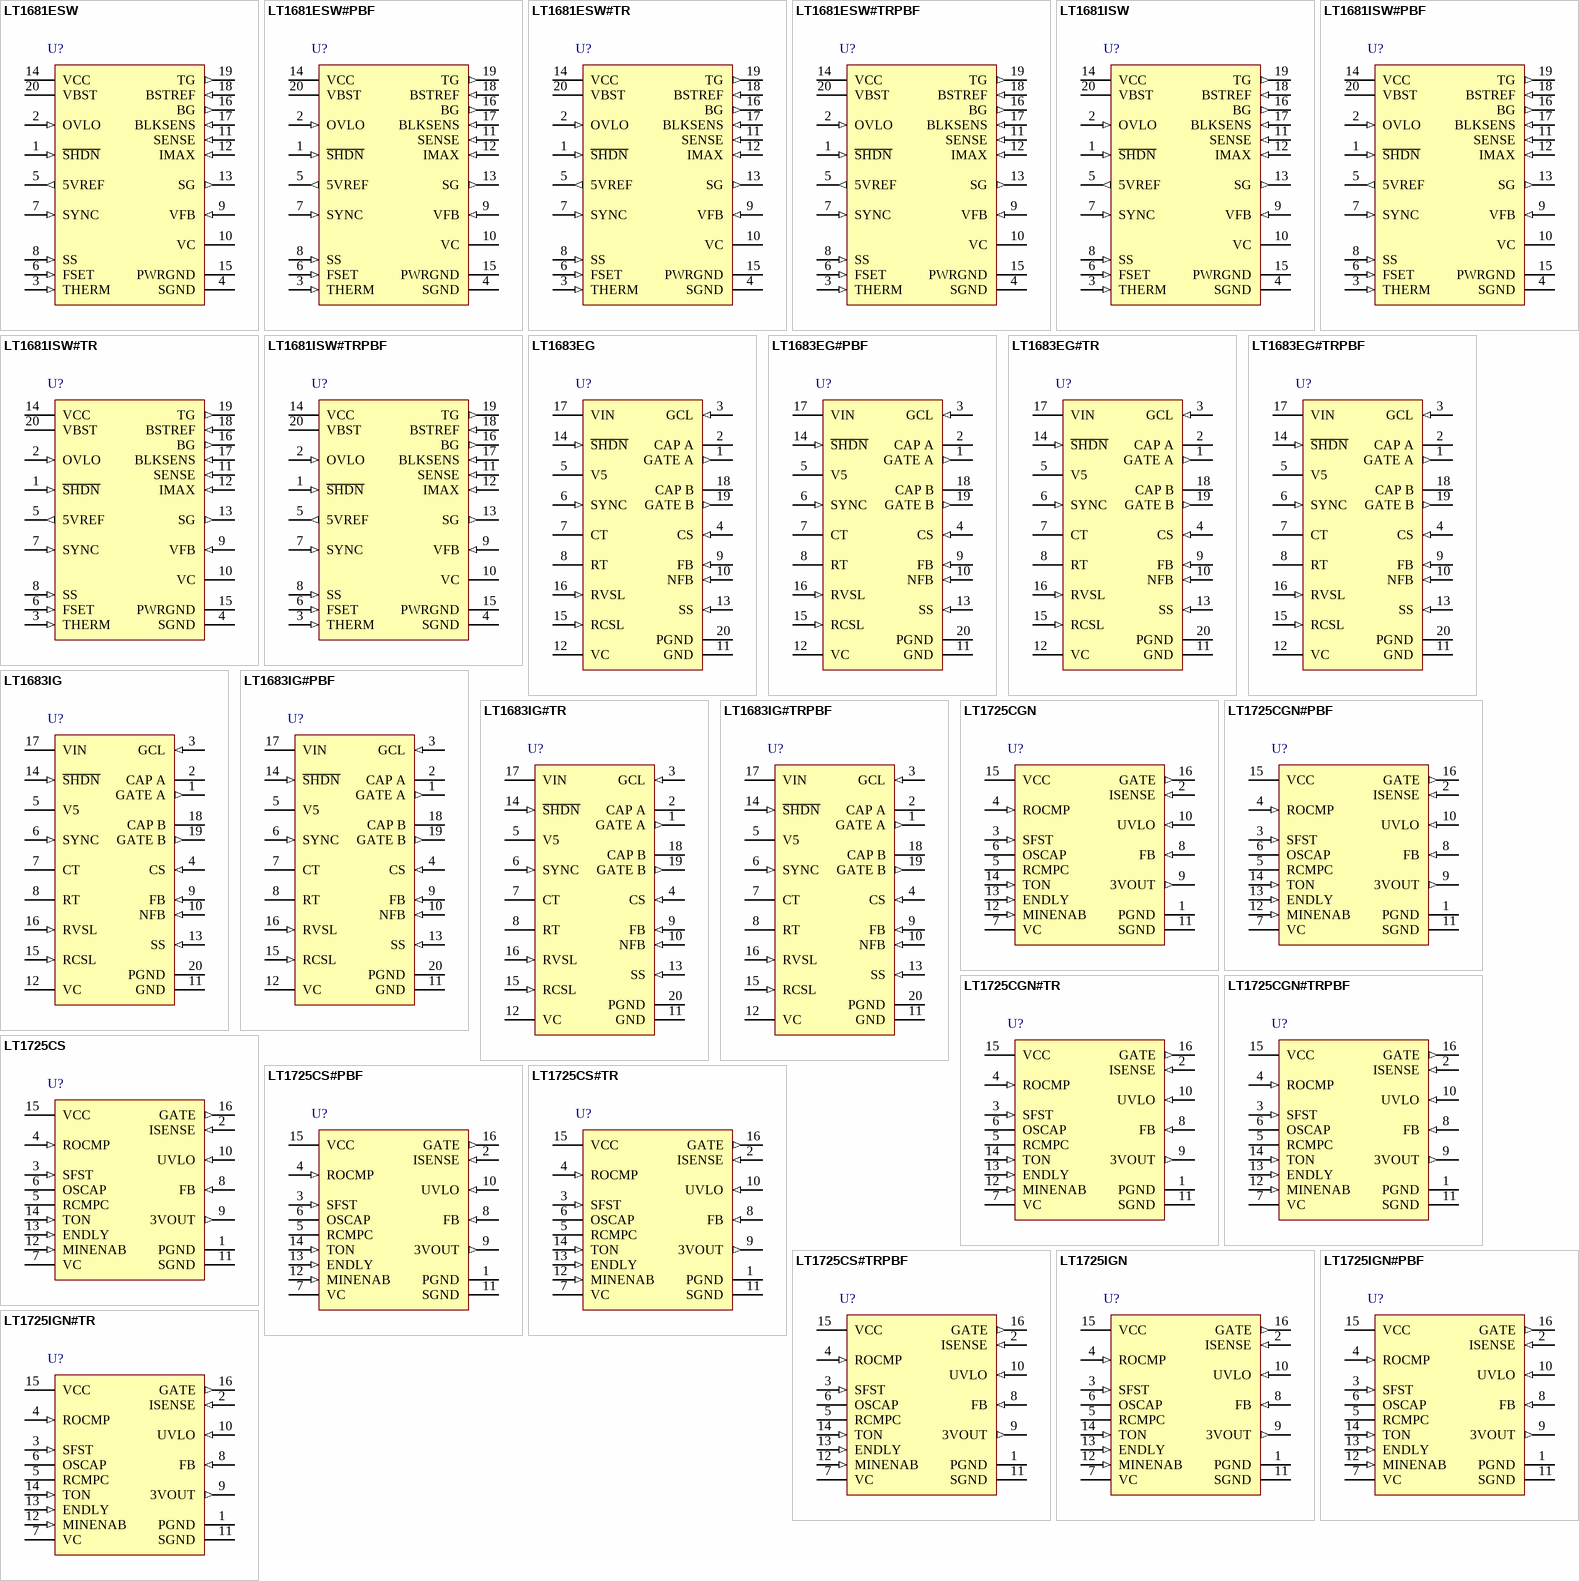
[diagram p19: symbols LT1681ESW to LT1725IGN#TR]

## LT1681ESW
designator U?
Dual Transistor Synchronous Forward Controller, 20-pin SOIC (SW-20), -40 to 85 degC; Manufacturer: Linear Technology; PartNumber: LT1681ESW; Number of Outputs: 1; PackageReference: SW-20; PackageDescription: 20-Pin Plastic Small Outline, Body 12.80 x 7.49 mm, Pitch 1.27 mm; Supplier 1: Digi-Key; Supplier Part Number 1: LT1681ESW-ND; RoHS: FALSE
footprint LT-SW-20_N (SOIC, 20-Leads, Body 12.8x7.49mm, Pitch 1.27mm, IPC Medium Density)
footprint LT-SW-20_L (SOIC, 20-Leads, Body 12.8x7.49mm, Pitch 1.27mm, IPC High Density)
footprint LT-SW-20_M (SOIC, 20-Leads, Body 12.8x7.49mm, Pitch 1.27mm, IPC Low Density)
pins: 1 ~{SHDN} (in) "Shutdown Pin. Pin voltages exceeding positive-going threshold of 1.25V enables the LT1681. 150mV of input hysteresis resists mode switching instability. The S\H\D\N\ pin can be controlled by either a logic-level input or (See Datasheet)", 2 OVLO (in) "Overvoltage Shutdown Sense. Typically connected to input supply through a resistor divider. If pin voltage exceeds 1.25V, the LT1681 switching function is disabled to protect boosted circuitry from exceeding absolute maximum (See Datasheet)", 3 THERM (in) "System Thermal Shutdown. Auxiliary shutdown pin that is typically used for system thermal protection. If pin voltage exceeds 1.25V, the LT1681 switching function is disabled. 40mV of input hysteresis resists mode switching (See Datasheet)", 4 SGND (power) "Signal Ground Reference. Careful board layout techniques must be used to prevent corruption of the signal ground reference. High current switching paths must be oriented on the converter ground plane such that currents (See Datasheet)", 5 5VREF (out) "5V Local Reference. Allows connection of external loads up to 20mA DC. Typically bypassed with 1uF ceramic capacitor to SGND. Reference output is current limit protected to a typical value of 45mA. If the load on the 5V (See Datasheet)", 6 FSET (in) "Oscillator Timing Pin. Connect a resistor (RFSET) from the 5VREF pin to this pin and a capacitor (CFSET) from this pin to ground.", 7 SYNC (in) "Oscillator Synchronization Input Pin with TTL-Level Compatible Input. The SYNC input signal (at the desired synchronized operating frequency) controls both the internal oscillator (running at twice the SYNC frequency) and (See Datasheet)", 8 SS (in) "Soft-Start. Connect a capacitor (CSS) from this pin to ground. The output voltage of the LT1681 error amplifier corresponds to the peak current sense amplifier output detected before resetting the switch outputs. The (See Datasheet)", 9 VFB (in) "Error Amplifier Inverting Input. Typically connected to a resistor divider from the output and compensation components to the VC pin. The VFB pin is the converter output voltage feedback node. Input bias current of ~50nA (See Datasheet)", 10 VC "Error Amplifier Output. The LT1681 error amplifier is a low impedance output inverting gain stage. The amplifier has ample current source capability to allow easy integration of isolation optocouplers that require bias (See Datasheet)", 11 SENSE (in) "Current Sense Amplifier (CSA) Noninverting Input. Current is monitored via a ground referenced current sense resistor, typically in series with the source of the bottom-side switch FET. Internal limit circuitry provides for (See Datasheet)", 12 IMAX (in) "Primary Current Runaway Protection. The IMAX pin is used to detect primary-side switch currents and shuts down the primary switches if a current runaway condition is detected. The IMAX function is not disabled during the (See Datasheet)", 13 SG (out) "Synchronous Switch Output Driver. This pin can be connected directly to the gate of the synchronous switch if small FETs are used (CGATE < 5000pF), however, the use of a gate drive buffer is recommended for peak efficiencies.(See Datasheet)", 14 VCC (power) "IC Local Power Supply Input. Bypass with a capacitor at least 10 times greater than C5VREF to PGND. The LT1681 incorporates undervoltage lockout that disables switching functions if VCC is below 8.4V. The LT1681 supports (See Datasheet)", 15 PWRGND (power) "Output Driver Ground Reference. Connect through low impedance trace to VIN decoupling capacitor.", 16 BG (out) "Bottom-Side Primary Switch/Forward Switch Output Driver. Pin can be connected directly to gate of primary bottom-side and forward switches if small FETs are used (CGATE total < 5000pF), however, the use of a gate drive (See Datasheet)", 17 BLKSENS (in) "Blanking Sense Input. The current sense function (via SENSE pin) is disabled while the BLKSENS pin is below 5V. BLKSENS is typically connected to the gate of the bottom-side primary switch MOSFET.", 18 BSTREF (in) "VBST Supply Reference. Typically connects to source of topside external power FET switch.", 19 TG (out) "Topside (Boosted) Primary Output Driver. Pin can be connected directly to gate of primary topside switch if small FETs are used (CGATE < 5000pF), however, the use of a gate drive buffer is recommended for peak efficiencies.", 20 VBST (power) "Topside Primary Driver Bootstrapped Supply. This ¡°boosted¡± supply rail is referenced to the BSTREF pin."